# Altium footprint library Connectors.PcbLib: 73 footprints (part 5 of 5)
Each footprint in its own frame and in the unit in brackets; x right, y up, seen from the top. Pads: shape width x height; smd on the part's side, far side on the other; paste and mask are expansions set on the pad; w line width, h text height; cw(c..) or ccw(c..) is an arc to the next point about the centre after c.
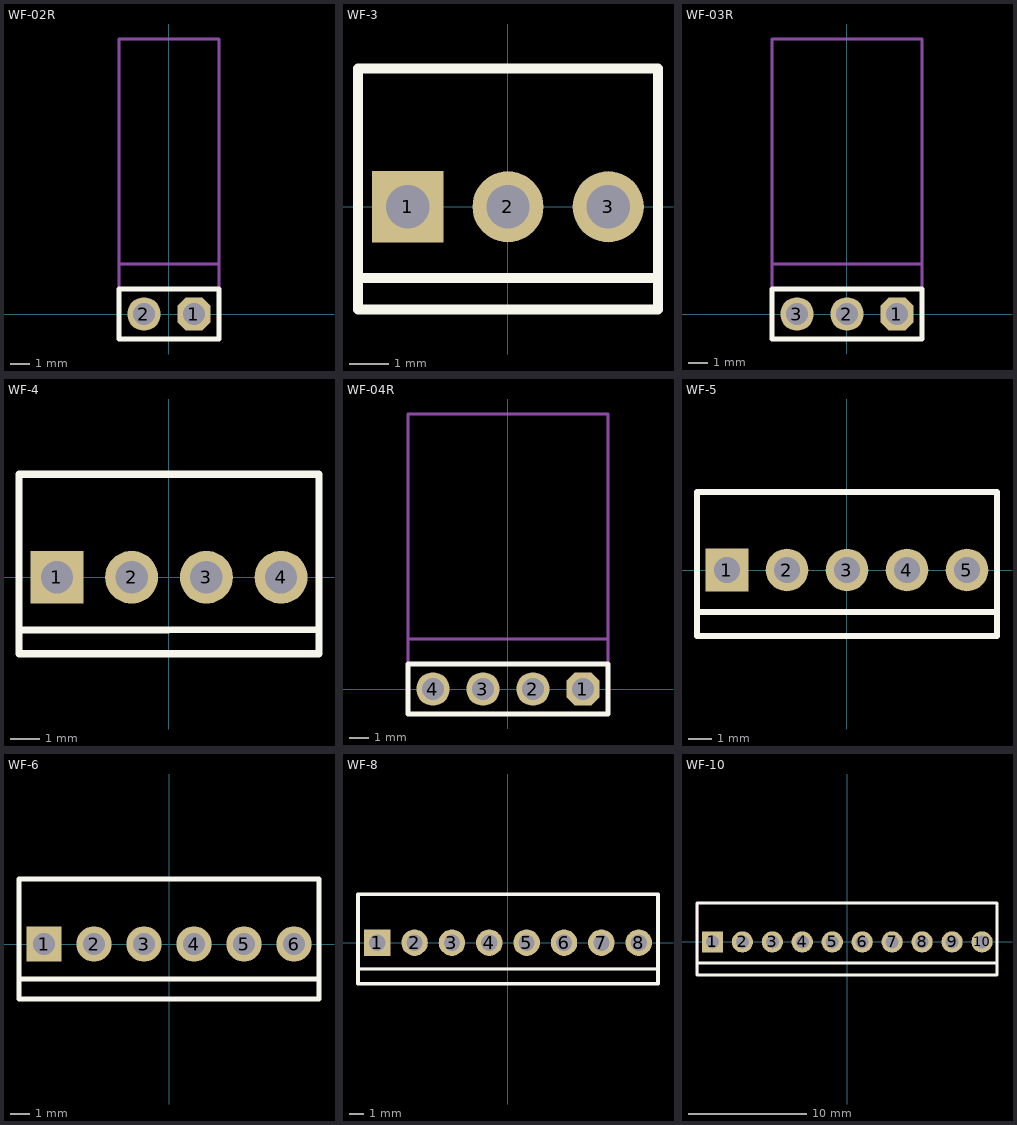
[diagram p4: the footprints below, top view; thin cyan lines are the x and y axes]

## WF-02R [mm]
pads (2):
  oct 1.7x1.7 hole 1.1: 1(1.27,0)
  round 1.7 hole 1.1: 2(-1.27,0)
Top Overlay:
  lines w0.25: -2.54,-1.27 2.54,-1.27 2.54,1.27 -2.54,1.27 -2.54,-1.27
Top Assembly:
  lines w0.15: -2.54,2.54 2.54,2.54 ; -2.54,-1.27 2.54,-1.27 2.54,13.97 -2.54,13.97 -2.54,-1.27
3D body "WF-02R.stp": height 6.4, standoff -2.9, extent -2.54,-0.32 2.54,13.78

## WF-3 [mm]
pads (3):
  rect 1.8x1.8 hole 1.1: 1(-2.54,0)
  round 1.8 hole 1.1: 2(0,0) 3(2.54,0)
Top Overlay:
  lines w0.25: -3.8,-1.8 3.8,-1.8 ; -3.8,-2.6 3.8,-2.6 3.8,3.5 -3.8,3.5 -3.8,-2.6
Top Assembly:
  lines w0.15: -3.8,-1.778 3.8,-1.778 ; -3.8,-2.6 -3.8,3.5 3.8,3.5 3.8,-2.6 -3.8,-2.6
3D body "DS1070-3 (WF-3 CONNFLY).stp": height 11.5, standoff -3.2, extent -3.81,-2.4 3.81,3.5

## WF-03R [mm]
pads (3):
  oct 1.7x1.7 hole 1.1: 1(2.54,0)
  round 1.7 hole 1.1: 2(0,0) 3(-2.54,0)
Top Overlay:
  lines w0.25: -3.81,-1.27 3.81,-1.27 3.81,1.27 -3.81,1.27 -3.81,-1.27
Top Assembly:
  lines w0.15: -3.81,2.54 3.81,2.54 ; -3.81,-1.27 3.81,-1.27 3.81,13.97 -3.81,13.97 -3.81,-1.27
3D body "WF-03R.stp": height 6.4, standoff -2.9, extent -3.81,-0.32 3.81,13.78

## WF-4 [mm]
pads (4):
  rect 1.8x1.8 hole 1.1: 1(-3.81,0)
  round 1.8 hole 1.1: 2(-1.27,0) 3(1.27,0) 4(3.81,0)
Top Overlay:
  lines w0.25: -5.1,-1.8 5.1,-1.778 ; -5.1,-2.6 5.1,-2.6 5.1,3.5 -5.1,3.5 -5.1,-2.6
Top Assembly:
  lines w0.15: -5.1,-1.778 5.1,-1.778 ; -5.1,-2.6 5.1,-2.6 5.1,3.5 -5.1,3.5 -5.1,-2.6
3D body "DS1070-4 (WF-4 CONNFLY).stp": height 11.5, standoff -3.2, extent -5.08,-2.4 5.08,3.5

## WF-04R [mm]
pads (4):
  oct 1.7x1.7 hole 1.1: 1(3.81,0)
  round 1.7 hole 1.1: 2(1.27,0) 3(-1.27,0) 4(-3.81,0)
Top Overlay:
  lines w0.25: -5.08,-1.27 5.08,-1.27 5.08,1.27 -5.08,1.27 -5.08,-1.27
Top Assembly:
  lines w0.15: -5.08,2.54 5.08,2.54 ; -5.08,-1.27 5.08,-1.27 5.08,13.97 -5.08,13.97 -5.08,-1.27
3D body "WF-04R.stp": height 6.4, standoff -2.9, extent -5.08,-0.32 5.08,13.78

## WF-5 [mm]
pads (5):
  rect 1.8x1.8 hole 1.1: 1(-5.08,0)
  round 1.8 hole 1.1: 2(-2.54,0) 3(0,0) 4(2.54,0) 5(5.08,0)
Top Overlay:
  lines w0.25: -6.35,-1.778 6.35,-1.778 ; -6.35,-2.794 6.35,-2.794 6.35,3.302 -6.35,3.302 -6.35,-2.794
Top Assembly:
  lines w0.15: -6.35,-1.778 6.35,-1.778 ; -6.35,-2.794 6.35,-2.794 6.35,3.302 -6.35,3.302 -6.35,-2.794
3D body "DS1070-5 (WF-5 CONNFLY).stp": height 11.5, standoff -3.2, extent -6.35,-2.4 6.35,3.5

## WF-6 [mm]
pads (6):
  rect 1.8x1.8 hole 1.1: 1(-6.35,0)
  round 1.8 hole 1.1: 2(-3.81,0) 3(-1.27,0) 4(1.27,0) 5(3.81,0) 6(6.35,0)
Top Overlay:
  lines w0.25: -7.62,-1.778 7.62,-1.778 ; 7.62,-2.794 5.08,-2.794 -7.62,-2.794 -7.62,3.302 5.08,3.302 7.62,3.302 7.62,-2.794 ; 7.62,-2.794 7.62,-2.794
Top Assembly:
  lines w0.15: -7.62,-1.778 5.08,-1.778 7.62,-1.778 ; 7.62,-2.794 7.62,3.302 5.08,3.302 -7.62,3.302 -7.62,-2.794 5.08,-2.794 7.62,-2.794 ; 7.62,-2.794 7.62,-2.794
3D body "DS1070-6 (WF-6 CONNFLY).stp": height 11.5, standoff -3.2, extent -7.62,-2.4 7.62,3.5

## WF-8 [mm]
pads (8):
  rect 1.8x1.8 hole 1.1: 1(-8.89,0)
  round 1.8 hole 1.1: 2(-6.35,0) 3(-3.81,0) 4(-1.27,0) 5(1.27,0) 6(3.81,0) 7(6.35,0) 8(8.89,0)
Top Overlay:
  lines w0.25: -10.16,-1.778 10.2,-1.808 ; 10.2,3.296 -10.196,3.296 -10.196,-2.796 10.2,-2.796 10.2,3.3
Top Assembly:
  lines w0.15: -10.16,-1.778 2.54,-1.778 10.178,-1.778 ; -10.16,-2.794 -10.16,3.302 2.54,3.302 10.198,3.302 10.2,3.3 10.2,-2.8 10.194,-2.794 2.54,-2.794 -10.16,-2.794
3D body "DS1070-8 (WF-8 CONNFLY).stp": height 11.5, standoff -3.2, extent -10.16,-2.4 10.16,3.5

## WF-10 [mm]
pads (10):
  rect 1.8x1.8 hole 1.1: 1(-11.43,0)
  round 1.8 hole 1.1: 2(-8.89,0) 3(-6.35,0) 4(-3.81,0) 5(-1.27,0) 6(1.27,0) 7(3.81,0) 8(6.35,0) 9(8.89,0) 10(11.43,0)
Top Overlay:
  lines w0.25: -12.736,-2.796 -12.736,3.296 ; -12.7,-2.8 12.7,-2.8 12.7,3.296 ; -12.7,-1.8 12.7,-1.8 ; -12.7,3.3 12.7,3.3
Top Assembly:
  lines w0.15: -12.7,-2.8 12.7,-2.8 12.7,3.3 -12.7,3.3 ; -12.7,-2.794 -12.7,3.302 ; -12.7,-1.8 12.7,-1.8
3D body "DS1070-10 (WF-10 CONNFLY).stp": height 11.5, standoff -3.2, extent -12.7,-2.4 12.7,3.5